# Altium footprint library Photoresistors.PcbLib: 1 footprints
Each footprint in its own frame and in the unit in brackets; x right, y up, seen from the top. Pads: shape width x height; smd on the part's side, far side on the other; paste and mask are expansions set on the pad; w line width, h text height; cw(c..) or ccw(c..) is an arc to the next point about the centre after c.
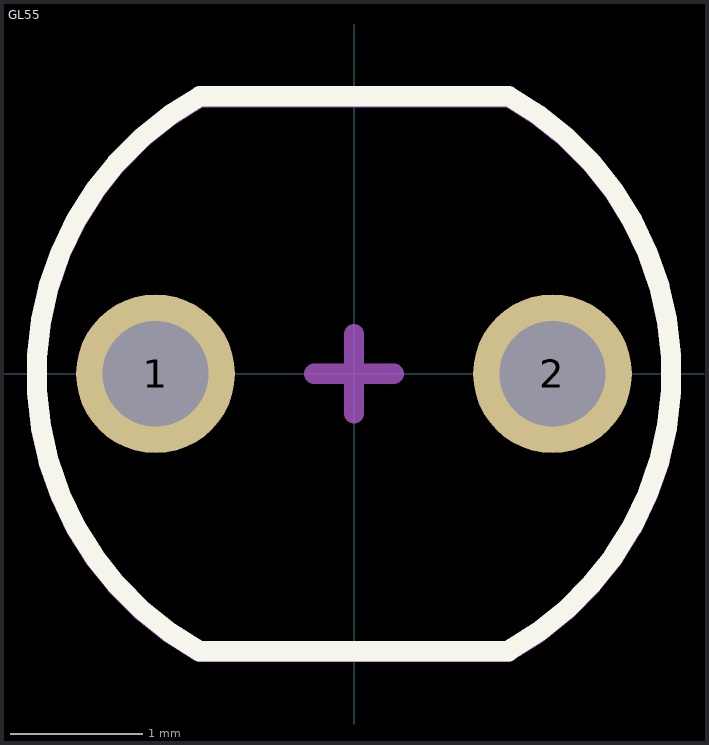
[diagram p0: the footprint, top view; thin cyan lines are the x and y axes]

## GL55 [mm]
pads (2):
  round 1.2 hole 0.8: 1(-1.5,0) 2(1.5,0)
Top Overlay:
  lines w0.153: 1.168,-2.097 -1.168,-2.097 cw(c0,0) -1.168,2.097 1.168,2.097 ; 1.168,-2.094 ccw(c0,0.003) 1.169,2.099
Top Assembly:
  lines w0.1: -1.168,2.094 1.168,2.094 ; -1.168,2.094 ccw(c0,-0.003) -1.168,-2.1 1.168,-2.1 ; 1.168,-2.097 ccw(c0,0) 1.169,2.096
  text "'.Designator'" at -4.532,-0.333 h0.8
Top Courtyard:
  lines w0.153: -0.3,0 0.3,0 ; 0,-0.3 0,0.3 ; 1.168,-2.103 -1.168,-2.103 cw(c0,-0.006) -1.168,2.09 1.168,2.09 ; 1.168,-2.1 ccw(c0,-0.003) 1.169,2.093
3D body "User Library-GL55 series photoresistor.step": height 9.35, standoff -0.9, extent -2.539,-2.15 2.539,2.15